# EAGLE library part A1335LLETR-T (library a4853)
HIGH RESOLUTING ANGLE SENSOR tested: NO
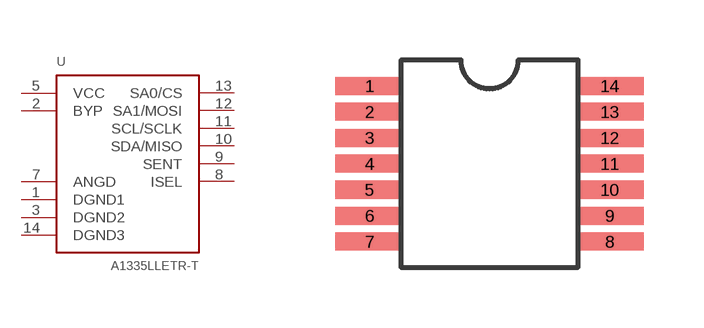
[diagram p3: symbol with the pads of TSSOP14; footprint TSSOP14]

Designator prefix U

## A1335LLETR-T  [TSSOP14]
1  DGND1
2  BYP
3  DGND2
5  VCC
7  ANGD
8  ISEL
9  SENT
10  SDA/MISO
11  SCL/SCLK
12  SA1/MOSI
13  SA0/CS
14  DGND3

## Footprint TSSOP14 (pad centres in mm)
smd 1.7 x 0.45: 1 -3,1.95; 2 -3,1.3; 3 -3,0.65; 4 -3,0; 5 -3,-0.65; 6 -3,-1.3; 7 -3,-1.95; 8 3,-1.95; 9 3,-1.3; 10 3,-0.65; 11 3,0; 12 3,0.65; 13 3,1.3; 14 3,1.95